# Altium schematic symbol library Logic.SchLib: 12 symbols
Pins are listed as number, name and electrical type; pins without a type are passive.

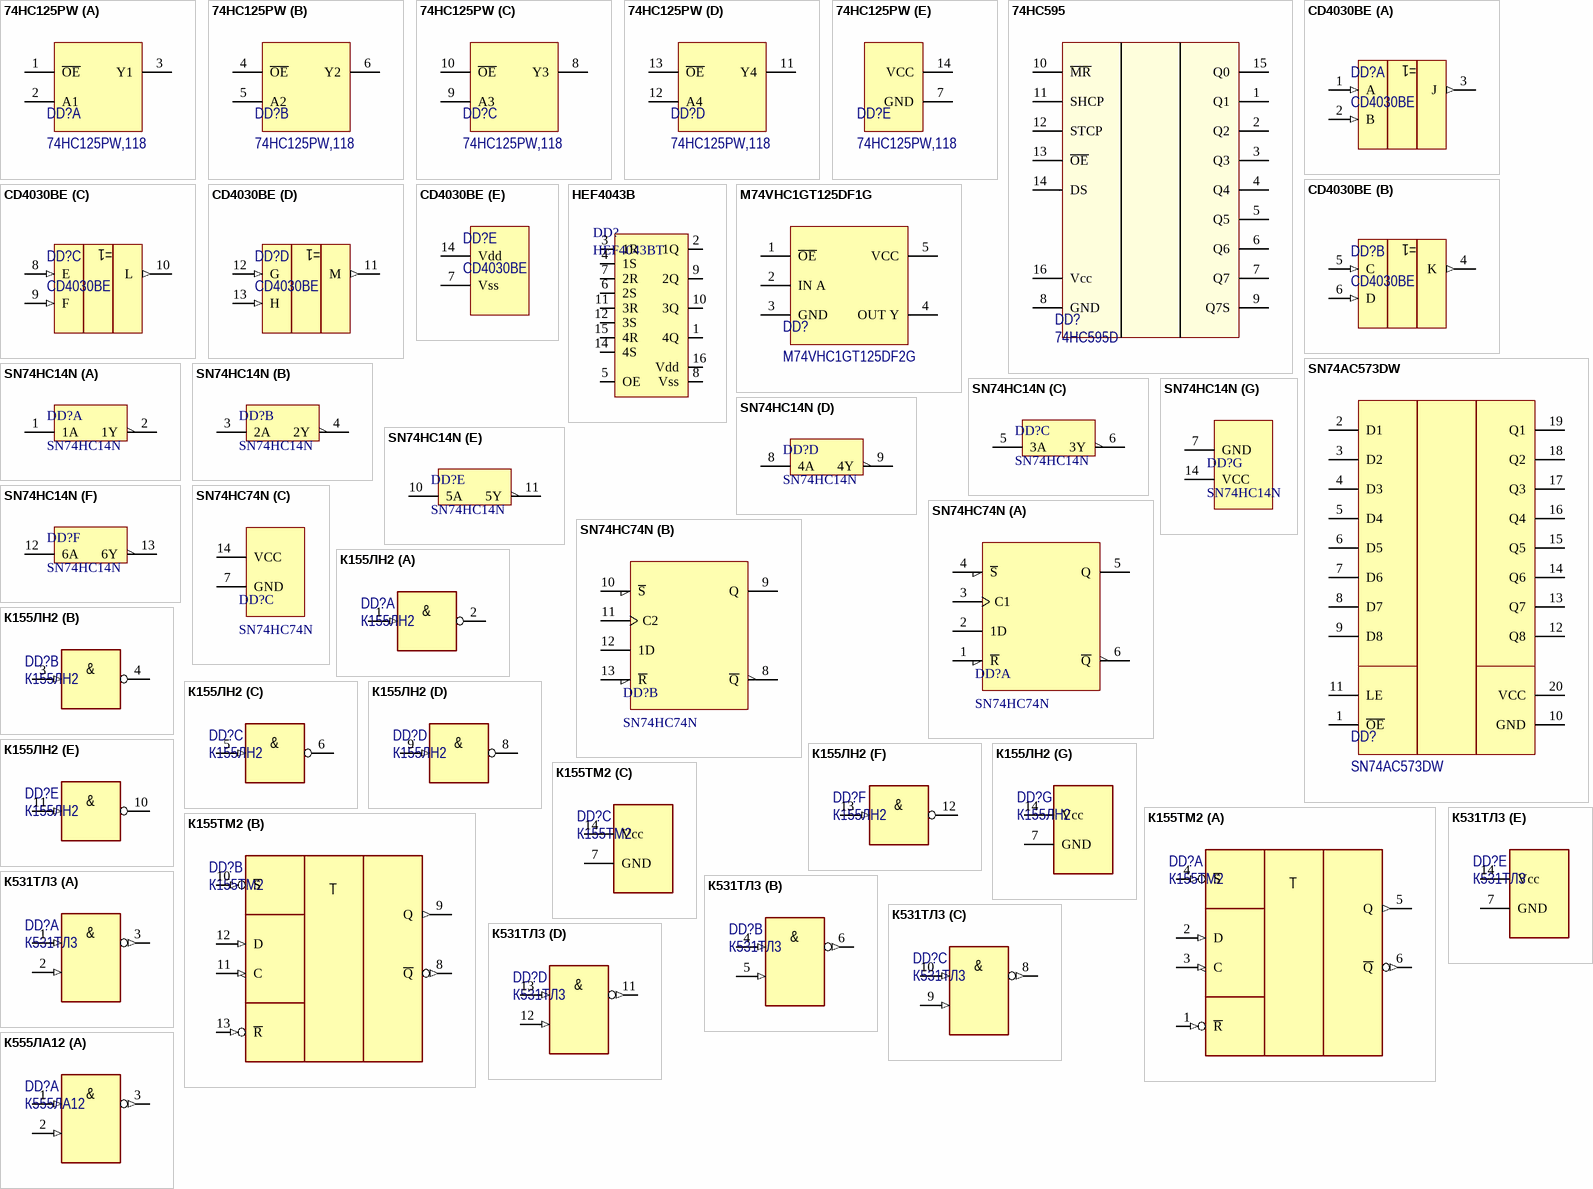
[diagram p0: symbols 74HC125PW to К555ЛА12]

## 74HC125PW
designator DD?, comment 74HC125PW,118
BUFFER/DRIV, QUAD, TRI-STATE, TSSOP-14; Manufacturer: NXP; ManufacturerPartNumber: 74HC125PW,118; ComponentLink1URL: http://www.farnell.com/datasheets/1886261.pdf; ComponentLink1Description: http://www.farnell.com/datasheets/1886261.pdf; Price: 5; Note: *; Supplier: *
footprint TSSOP14
part A pins: 1 ~{OE}, 2 A1, 3 Y1
part B pins: 4 ~{OE}, 5 A2, 6 Y2
part C pins: 8 Y3, 9 A3, 10 ~{OE}
part D pins: 11 Y4, 12 A4, 13 ~{OE}
part E pins: 7 GND, 14 VCC

## 74HC595
designator DD?, comment 74HC595D
IC: digital; 3-state,8bit, shift register, latch; SMD; SO16; Manufacturer: NXP; ManufacturerPartNumber: 74HC595D; ComponentLink1URL: http://www.tme.eu/en/details/74hc595d/shift-registers/; ComponentLink1Description: http://www.tme.eu/en/details/74hc595d/shift-registers/; Supplier: *; Price: 25; Note: *
footprint SOIC127P600X175-16N (SOIC, 16-Leads, Body 9,90x3,90mm, Pitch 1,27mm, IPC Medium Density)
pins: 1 Q1, 2 Q2, 3 Q3, 4 Q4, 5 Q5, 6 Q6, 7 Q7, 8 GND, 9 Q7S, 10 ~{MR}, 11 SHCP, 12 STCP, 13 ~{OE}, 14 DS, 15 Q0, 16 Vcc

## CD4030BE
designator DD?
Исключающее ИЛИ х4; Manufacturer: Texas; Note: CMOS High-voltage(20V); Supllier: Промэлектроника; ManufacturerPartNumber: CD4030BE; Package: DIP-14; Price: 23.38
footprint DIP14
part A pins: 1 A (in), 2 B (in), 3 J (out)
part B pins: 4 K (out), 5 С (in), 6 D (in)
part C pins: 8 E (in), 9 F (in), 10 L (out)
part D pins: 11 M (out), 12 G (in), 13 H (in)
part E pins: 7 Vss (power), 14 Vdd (power)

## HEF4043B
designator DD?, comment HEF4043BT
RS-триггер КМОП х4; Manufacturer: Nexperia; ComponentLink1Description: Datasheet; ComponentLink1URL: http://assets.nexperia.com/documents/data-sheet/HEF4043B.pdf; ManufacturerPartNumber: HEF4043BT; Package: SOIC-16; Price: 19; Supplier: Промэлектроника
pins: 1 4Q, 2 1Q, 3 1R, 4 1S, 5 OE, 6 2S, 7 2R, 8 Vss, 9 2Q, 10 3Q, 11 3R, 12 3S, 14 4S, 15 4R, 16 Vdd

## M74VHC1GT125DF1G
designator DD?, comment M74VHC1GT125DF2G
NON INVERTING BUFFER, SOT-353-5; Manufacturer: ON SEMICONDUCTOR; ManufacturerPartNumber: M74VHC1GT125DF2G; ComponentLink1URL: http://www.farnell.com/datasheets/1749137.pdf; ComponentLink1Description: http://www.farnell.com/datasheets/1749137.pdf; Price: 3; Note: *; Supplier: *
footprint SOT65P210X110-5N (SOT23, 5-Leads, Body 2,00x2,10mm, Pitch 0,65mm, IPC Medium Density)
pins: 1 ~{OE}, 2 IN A, 3 GND, 4 OUT Y, 5 VCC

## SN74AC573DW
designator DD?
IC OCTAL TRANSP LATCH 20-SOIC; Manufacturer: Texas Instruments; ManufacturerPartNumber: SN74AC573DW; ComponentLink1URL: http://www.ti.com/lit/ds/symlink/sn74ac573.pdf; ComponentLink1Description: http://www.ti.com/lit/ds/symlink/sn74ac573.pdf; Price: 50; Note: *; Supplier: *
footprint SOIC127P1030X265-20N (SOIC, 20-Leads, Body 12,78x7,50mm, Pitch 1,27mm, IPC Medium Density)
pins: 1 ~{OE}, 2 D1, 3 D2, 4 D3, 5 D4, 6 D5, 7 D6, 8 D7, 9 D8, 10 GND, 11 LE, 12 Q8, 13 Q7, 14 Q6, 15 Q5, 16 Q4, 17 Q3, 18 Q2, 19 Q1, 20 VCC

## SN74HC14N
designator DD?
IC, HEX INVERTER, SCHMITT, 74HC14, 14DIP; Manufacturer: TEXAS INSTRUMENTS; Description: TEXAS INSTRUMENTS - SN74HC14N - IC, HEX INVERTER, SCHMITT, 74HC14, 14DIP; Logic Type: Inverter Schmitt Trigger; Output Current: 5.2; No. of Inputs: 1; Supply Voltage Min: 2; Supply Voltage Max: 6; Logic Case Style: DIP; No. of Pins: 14; Logic IC Family: 74; Logic IC Base Number: 7414; SVHC: No SVHC (15-Jun-2015); Device Marking: SN74HC00; Logic IC Function: Hex Inverter with Schmitt Trigger; Supply Voltage: 5; Supply Voltage Range: 2V to 6V<!--FANDB--><div class="features-and-benefits-container"><div class="features-and-benefits-description"><span class="features-benefits-value">The SN74HC14N is a Schmitt-trigger IC, contains six independent inverters. It performs the Boolean function Y = A in positive logic.</span></div><div class="features-and-benefits-list"><ul class="features-and-benefits-list-list"><li class="features-and-benefits-list-item">Outputs Can Drive up to 10 LSTTL Loads</li><li class="features-and-benefits-list-item">Low-power Consumption, 20µA Maximum ICC</li><li class="features-and-benefits-list-item">11ns Typical Propagation Delay Time</li><li class="features-and-benefits-list-item">±4mA Output Drive at 5V</li><li class="features-and-benefits-list-item">Low Input Current of 1; Supplier 1: Farnell; ManufacturerPartNumber: SN74HC14N; RoHS: YES; Stock 1: 9599; Pricing 1: 1=0,472, 10=0,385, 100=0,213, 200=0,189, 500=0,164, 2000=0,141, 4000=0,13 (GBP); Logic Family / Base Number: 74HC14; Operating Temperature Min: -40; Operating Temperature Max: 85; Packaging: Each; Product Range: -; Automotive Qualification Standard: -; MSL: -; Base Number: 74; Logic Function Number: 7414; Operating Temperature Range: -40°C to +85; ComponentLink1URL: http://www.ti.com/general/docs/lit/getliterature.tsp?genericPartNumber=SN74HC14&amp;&amp;fileType=pdf; ComponentLink1Description: http://www.ti.com/general/docs/lit/getliterature.tsp?genericPartNumber=SN74HC14&amp;&amp;fileType=pdf; ComponentLink2URL: http://www.farnell.com/cad/1613302.zip; ComponentLink2Description: http://www.farnell.com/cad/1613302.zip; ComponentLink3URL: http://www.farnell.com/datasheets/2060315.pdf; ComponentLink3Description: http://www.farnell.com/datasheets/2060315.pdf; Supplier Part Number 1: 9591125
footprint DIP14
part A pins: 1 1A, 2 1Y
part B pins: 3 2A, 4 2Y
part C pins: 5 3A, 6 3Y
part D pins: 8 4A, 9 4Y
part E pins: 10 5A, 11 5Y
part F pins: 12 6A, 13 6Y
part G pins: 7 GND (power), 14 VCC (power)

## SN74HC74N
designator DD?
TEXAS INSTRUMENTS - SN74HC74N - LOGIC, DUAL D-TYPE FLIP-FLOP, 14DIP; Logic Family / Base Number: 74HC74; Flip-Flop Type: D; Propagation Delay: 15; Frequency: 60; Output Current: 5.2; Logic Case Style: DIP; No. of Pins: 14; Trigger Type: Positive Edge; IC Output Type: Complementary; Supply Voltage Min: 2; Supply Voltage Max: 6; Logic IC Family: 74; Logic IC Base Number: 7474; SVHC: No SVHC (15-Jun-2015); Logic IC Function: Dual D-Type Positive-Edge-Triggered Flip-Flop with Clear and Preset; Supply Voltage Range: 2V to 6; Supplier 1: Farnell; Manufacturer: TEXAS INSTRUMENTS; ManufacturerPartNumber: SN74HC74N; RoHS: YES; Stock 1: 5824; Pricing 1: 1=0,402, 10=0,307, 25=0,295, 50=0,277, 100=0,15, 200=0,149, 500=0,112 (GBP); Operating Temperature Min: -40; Operating Temperature Max: 85; Packaging: Each; Product Range: -; Automotive Qualification Standard: -; MSL: -; Logic Function Number: 7474; Operating Temperature Range: -40°C to +85; Termination Type: Through Hole<!--FANDB--><div class="features-and-benefits-container"><div class="features-and-benefits-description"><span class="features-benefits-value">The SN74HC74N is a dual D-type positive-edge-triggered Flip-flop with clear and preset. A low level at the preset (PRE) or clear (CLR) inputs sets or resets the outputs, regardless of the levels of the other inputs. When PRE and CLR are inactive (high), data at the data (D) input meeting the setup time requirements are transferred to the outputs on the positive-going edge of the clock (CLK) pulse. Clock triggering occurs at a voltage level and is not directly related to the rise time of CLK. Following the hold-time interval, data at the D-input can be changed without affecting the levels at the outputs.</span></div><div class="features-and-benefits-list"><ul class="features-and-benefits-list-list"><li class="features-and-benefits-list-item">Wide operating voltage range</li><li class="features-and-benefits-list-item">Outputs can drive up to 10 LSTTL loads</li><li class="features-and-benefits-list-item">Low power consumption</li><li class="features-and-benefits-list-item">15ns Typical TPD</li><li class="features-and-benefits-list-item">±4mA Output drive at 5; ComponentLink1URL: http://www.ti.com/general/docs/lit/getliterature.tsp?genericPartNumber=SN74HC74&amp;&amp;fileType=pdf; ComponentLink1Description: http://www.ti.com/general/docs/lit/getliterature.tsp?genericPartNumber=SN74HC74&amp;&amp;fileType=pdf; ComponentLink2URL: http://www.farnell.com/cad/1611520.zip; ComponentLink2Description: http://www.farnell.com/cad/1611520.zip; Supplier Part Number 1: 1739880
footprint DIP16
part A pins: 1 ~{R}, 2 1D, 3 C1, 4 ~{S}, 5 Q, 6 ~{Q}
part B pins: 8 ~{Q}, 9 Q, 10 ~{S}, 11 C2, 12 1D, 13 ~{R}
part C pins: 7 GND (power), 14 VCC (power)

## К155ЛН2
designator DD?
НЕ(ОК); Manufacturer: -; Package: DIP-14; ComponentLink1URL: -; ComponentLink1Description: Datasheet; Price: -; Supplier: -; ManufacturerPartNumber: К155ЛН2
footprint DIP14
part A pins: 1 (in), 2 (oc)
part B pins: 3 (in), 4 (oc)
part C pins: 5 (in), 6 (oc)
part D pins: 8 (oc), 9 (in)
part E pins: 10 (oc), 11 (in)
part F pins: 12 (oc), 13 (in)
part G pins: 7 GND (power), 14 Vcc (power)
part A text: &
part B text: &
part C text: &
part D text: &
part E text: &
part F text: &

## К155ТМ2
designator DD?
D-триггер; Manufacturer: -; Package: DIP-14; ComponentLink1URL: -; ComponentLink1Description: Datasheet; Price: -; Supplier: -; ComponentLink2URL: -; ComponentLink2Description: Datasheet-local; ManufacturerPartNumber: К155ТМ2
footprint DIP14
part A pins: 1 ~{R} (in), 2 D (in), 3 C (in), 4 ~{S} (in), 5 Q (out), 6 ~{Q} (out)
part B pins: 8 ~{Q} (out), 9 Q (out), 10 ~{S} (in), 11 C (in), 12 D (in), 13 ~{R} (in)
part C pins: 7 GND (power), 14 Vcc (power)
part A text: T
part B text: T

## К531ТЛ3
designator DD?
2И-НЕ с триггером Шмитта; Manufacturer: -; Package: DIP-14; ComponentLink1URL: -; ComponentLink1Description: Datasheet; Price: -; Supplier: -; ComponentLink2URL: -; ComponentLink2Description: Datasheet-local; ManufacturerPartNumber: К531ТЛ3
footprint DIP14
part A pins: 1 (in), 2 (in), 3 (out)
part B pins: 4 (in), 5 (in), 6 (out)
part C pins: 8 (out), 9 (in), 10 (in)
part D pins: 11 (out), 12 (in), 13 (in)
part E pins: 7 GND (power), 14 Vcc (power)
part A text: &
part B text: &
part C text: &
part D text: &

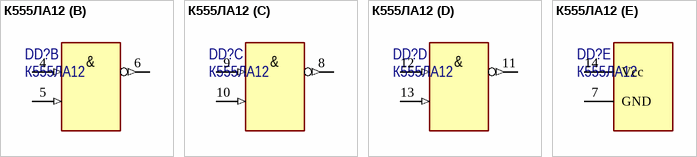
[diagram p1: symbol К555ЛА12]

## К555ЛА12
designator DD?
2И-НЕ; Manufacturer: -; Package: DIP-14; ComponentLink1URL: -; ComponentLink1Description: Datasheet; Price: -; Supplier: -; ManufacturerPartNumber: К555ЛА12
footprint DIP14
part A pins: 1 INA1 (in), 2 INA2 (in), 3 OUTA (out)
part B pins: 4 INB1 (in), 5 INB2 (in), 6 OUTB (out)
part C pins: 8 OUTC (out), 9 INC1 (in), 10 INC2 (in)
part D pins: 11 OUTD (out), 12 IND1 (in), 13 IND2 (in)
part E pins: 7 GND (power), 14 Vcc (power)
part A text: &
part B text: &
part C text: &
part D text: &